# Altium footprint library RAMBo.PcbLib: 56 footprints (part 4 of 4)
Each footprint in its own frame and in the unit in brackets; x right, y up, seen from the top. Pads: shape width x height; smd on the part's side, far side on the other; paste and mask are expansions set on the pad; w line width, h text height; cw(c..) or ccw(c..) is an arc to the next point about the centre after c.
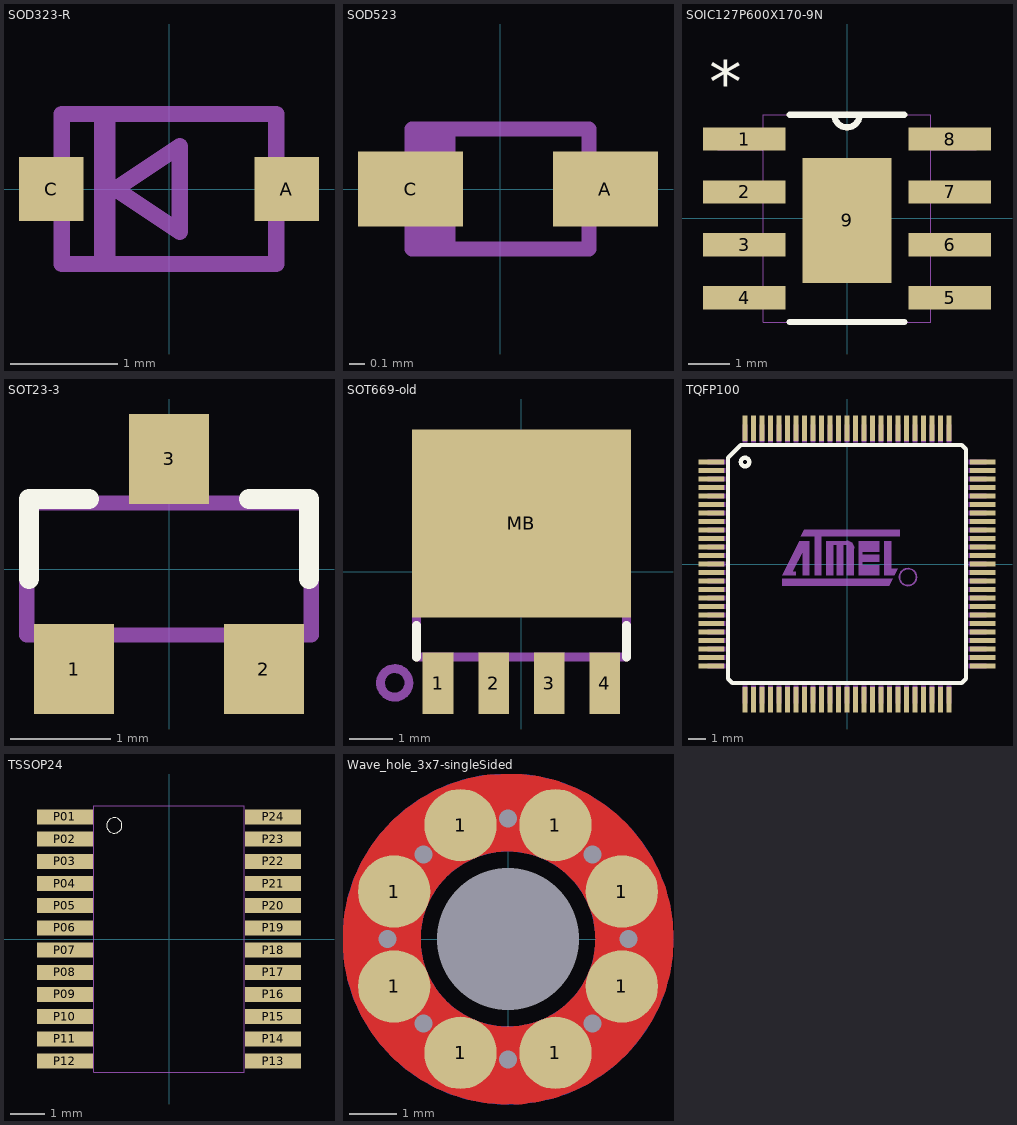
[diagram p3: the footprints below, top view; thin cyan lines are the x and y axes]

## SOD323-R [mil] "SOD323-R"
pads (2):
  rect 23.62x23.62 smd: A(43.31,0) C(-43.31,0)
Mechanical 16:
  rectangle: -27.56,-27.56 -19.69,27.56
  lines w6: -39.37,-27.56 -39.37,27.56 39.37,27.56 39.37,-27.56 -39.37,-27.56 ; -19.69,0 3.94,-15.75 3.94,15.75 -19.69,0

## SOD523 [mil] "SOD523"
pads (2):
  rect 27.56x19.69 smd: A(27.56,0) C(-23.62,0)
Mechanical 16:
  rectangle: -23.23,-15.75 -11.81,15.75
  rectangle: 21.26,-6.69 29.53,6.69
  rectangle: -29.53,-6.69 -21.26,6.69
  lines w4: -23.23,-15.75 -23.23,15.75 23.23,15.75 23.23,-15.75 -23.23,-15.75

## SOIC127P600X170-9N [mil] "SOIC127P600X170-9N"
pads (9):
  rect 78x22 smd: 1(-97,75) 2(-97,25) 3(-97,-25) 4(-97,-75) 5(97,-75) 6(97,-25) 7(97,25) 8(97,75)
  rect 84x118 smd: 9(0,-2)
Top Overlay:
  lines w6: -54,-98 54,-98 ; -54,98 54,98 ; -12,98 ccw(c0,98) 12,98
  text "*" at -130,92 h77.5
Top Paste:
  region: 40,-13 34,-13 31,-10 17,-10 14,-7 14,7 17,10 31,10 35,14 40,14
  region: -40,13 -34,13 -31,10 -17,10 -14,7 -14,-7 -17,-10 -31,-10 -35,-14 -40,-14
  region: 40,-58 -40,-58 -40,-43 -25,-43 -22.07,-42.71 -16.67,-40.47 -12.53,-36.33 -10.29,-30.93 -10,-28 -10,-26.01 -8.48,-22.34 -5.66,-19.52 -1.99,-18 1.99,-18 5.66,-19.52 8.48,-22.34 10,-26.01 10,-28 10.29,-30.93 12.53,-36.33 16.67,-40.47 22.07,-42.71 25,-43 40,-43
  region: -40,55 40,55 40,40 25,40 22.07,39.71 16.67,37.47 12.53,33.33 10.29,27.93 10,25 10,23.01 8.48,19.34 5.66,16.52 1.99,15 -1.99,15 -5.66,16.52 -8.48,19.34 -10,23.01 -10,25 -10.29,27.93 -12.53,33.33 -16.67,37.47 -22.07,39.71 -25,40 -40,40
Top Solder:
  region: -43,-25 -40,-25 -39.71,-27.93 -37.47,-33.33 -33.33,-37.47 -27.93,-39.71 -25,-40 -22.07,-39.71 -16.67,-37.47 -12.53,-33.33 -10.29,-27.93 -10,-25 10,-25 10.29,-27.93 12.53,-33.33 16.67,-37.47 22.07,-39.71 25,-40 27.93,-39.71 33.33,-37.47 37.47,-33.33 39.71,-27.93 40,-25 42,-25 42,-61.5 -43,-61.5
  region: -43,0 -15,0 -14.71,-2.93 -12.47,-8.33 -8.33,-12.47 -2.93,-14.71 0,-15 2.93,-14.71 8.33,-12.47 12.47,-8.33 14.71,-2.93 15,0 42,0 42,-25 40,-25 39.71,-22.07 37.47,-16.67 33.33,-12.53 27.93,-10.29 25,-10 22.07,-10.29 16.67,-12.53 12.53,-16.67 10.29,-22.07 10,-25 -10,-25 -10.29,-22.07 -12.53,-16.67 -16.67,-12.53 -22.07,-10.29 -25,-10 -27.93,-10.29 -33.33,-12.53 -37.47,-16.67 -39.71,-22.07 -40,-25 -43,-25
  region: -43,25 -40,25 -39.71,22.07 -37.47,16.67 -33.33,12.53 -27.93,10.29 -25,10 -22.07,10.29 -16.67,12.53 -12.53,16.67 -10.29,22.07 -10,25 10,25 10.29,22.07 12.53,16.67 16.67,12.53 22.07,10.29 25,10 27.93,10.29 33.33,12.53 37.47,16.67 39.71,22.07 40,25 42,25 42,0 15,0 14.71,2.93 12.47,8.33 8.33,12.47 2.93,14.71 0,15 -2.93,14.71 -8.33,12.47 -12.47,8.33 -14.71,2.93 -15,0 -43,0
  region: -43,58 42,58 42,25 40,25 39.71,27.93 37.47,33.33 33.33,37.47 27.93,39.71 25,40 22.07,39.71 16.67,37.47 12.53,33.33 10.29,27.93 10,25 -10,25 -10.29,27.93 -12.53,33.33 -16.67,37.47 -22.07,39.71 -25,40 -27.93,39.71 -33.33,37.47 -37.47,33.33 -39.71,27.93 -40,25 -43,25
Mechanical 16:
  lines w0: -12,98 ccw(c0,98) 12,98 ; -122,-85 -79,-85 -79,-65 -122,-65 -122,-85 ; -122,-35 -79,-35 -79,-15 -122,-15 -122,-35 ; -122,15 -79,15 -79,35 -122,35 -122,15 ; -122,65 -79,65 -79,85 -122,85 -122,65 ; -79,-98 -79,98 79,98 79,-98 -79,-98 ; 79,-85 122,-85 122,-65 79,-65 79,-85 ; 79,-35 122,-35 122,-15 79,-15 79,-35 ; 79,15 122,15 122,35 79,35 79,15 ; 79,65 122,65 122,85 79,85 79,65
  text "*" at -130,92 h77.5

## SOT23-3 [mil] "SOT23-3"
pads (3):
  rect 31.5x35.43 smd: 1(-37.4,-39.37) 2(37.4,-39.37) 3(0,43.31)
Top Overlay:
  lines w8: -55.12,-3.94 -55.12,27.56 -31.5,27.56 ; 31.5,27.56 55.12,27.56 55.12,-3.94
Mechanical 16:
  lines w6: -56,-26 -56,26 56,26 56,-26 -56,-26

## SOT669-old [mm] "SOT669"
pads (5):
  rect 0.7x1.4 smd: 1(-1.905,-2.55) 2(-0.635,-2.55) 3(0.635,-2.55) 4(1.905,-2.55)
  rect 5x4.3 smd: MB(0,1.1)
Top Overlay:
  lines w0.203: -2.4,-1.95 -2.4,-1.225 ; 2.4,-1.95 2.4,-1.225
Top Paste:
  region: -2.44,3.24 -2.16,3.24 -2.16,1.92 -2.44,1.92
  region: 2.19,3.24 2.44,3.24 2.44,1.92 2.19,1.92
  region: -1.73,3.23 -1.16,3.23 -1.16,2.61 -1.25,2.52 -1.63,2.52 -1.73,2.62
  region: -0.77,3.23 -0.2,3.23 -0.2,2.61 -0.29,2.52 -0.67,2.52 -0.77,2.62
  region: 0.18,3.24 0.75,3.24 0.75,2.62 0.66,2.53 0.28,2.53 0.18,2.63
  region: 1.13,3.24 1.7,3.24 1.7,2.62 1.61,2.53 1.23,2.53 1.13,2.63
  region: -1.52,2.09 -1.22,2.09 -1.15,2.02 -1.15,1.68 -1.27,1.56 -1.52,1.56
  region: 1.52,2.09 1.22,2.09 1.15,2.02 1.15,1.69 1.27,1.57 1.52,1.57
  region: -1.51,-0.95 -1.51,-0.73 -1.26,-0.73 -1.15,-0.84 -1.15,-0.96 -1.51,-0.96
  region: 1.52,-0.95 1.52,-0.73 1.28,-0.73 1.17,-0.84 1.17,-0.96 1.52,-0.96
  region: 1.52,-0.37 1.52,0.23 1.28,0.23 1.14,0.09 1.14,-0.22 1.29,-0.37
  region: 1.51,0.58 1.51,1.18 1.27,1.18 1.13,1.04 1.13,0.73 1.28,0.58
  region: -1.52,0.24 -1.52,-0.36 -1.28,-0.36 -1.14,-0.22 -1.14,0.09 -1.29,0.24
  region: -1.52,1.2 -1.52,0.6 -1.28,0.6 -1.14,0.74 -1.14,1.05 -1.29,1.2
  region: -0.74,-0.96 -0.74,-0.83 -0.65,-0.74 -0.29,-0.74 -0.2,-0.83 -0.2,-0.96
  region: 0.22,-0.96 0.22,-0.83 0.31,-0.74 0.67,-0.74 0.76,-0.83 0.76,-0.96
  region: -0.63,2.17 -0.34,2.17 -0.21,2.04 -0.21,1.66 -0.3,1.57 -0.65,1.57 -0.75,1.67 -0.75,2.05
  region: 0.33,2.16 0.62,2.16 0.75,2.03 0.75,1.65 0.66,1.56 0.31,1.56 0.21,1.66 0.21,2.04
  region: 0.34,1.19 0.63,1.19 0.76,1.06 0.76,0.68 0.67,0.59 0.32,0.59 0.22,0.69 0.22,1.07
  region: -0.62,1.22 -0.33,1.22 -0.2,1.09 -0.2,0.71 -0.29,0.62 -0.64,0.62 -0.74,0.72 -0.74,1.1
  region: 0.33,0.25 0.62,0.25 0.75,0.12 0.75,-0.26 0.66,-0.35 0.31,-0.35 0.21,-0.25 0.21,0.13
  region: -0.62,0.26 -0.33,0.26 -0.2,0.13 -0.2,-0.25 -0.29,-0.34 -0.64,-0.34 -0.74,-0.24 -0.74,0.14
Top Solder:
  drawing of 5 lines, arcs and shapes, not listed
Mechanical 16:
  circle w0.203: c-2.895,-2.54 r0.325
  rectangle: -2.155,-3.1 -1.655,-2.05
  rectangle: -2.205,-2.8 -1.605,-2.175
  rectangle: -0.885,-3.1 -0.385,-2.05
  rectangle: -0.935,-2.8 -0.335,-2.175
  rectangle: 0.385,-3.1 0.885,-2.05
  rectangle: 0.335,-2.8 0.935,-2.175
  rectangle: 1.655,-3.1 2.155,-2.05
  rectangle: 1.605,-2.8 2.205,-2.175
  region: -2.4,2.15 -2.4,2.8 -2.4,2.84 -2.37,2.913 -2.313,2.97 -2.24,3 -2.2,3 2.2,3 2.24,3 2.313,2.97 2.37,2.913 2.4,2.84 2.4,2.8 2.4,2.15 1.2,2.15 1.2,2.3 -1.2,2.3 -1.2,2.15
  lines w0.203: -2.4,-1.95 2.4,-1.95 2.4,1.95 -2.4,1.95 -2.4,-1.95

## TQFP100 [mm] "TQFP100"
pads (100):
  rect 1.5x0.3 smd: 1(-8,6) 2(-8,5.5) 3(-8,5) 4(-8,4.5) 5(-8,4) 6(-8,3.5) 7(-8,3) 8(-8,2.5) 9(-8,2) 10(-8,1.5) 11(-8,1) 12(-8,0.5) 13(-8,0) 14(-8,-0.5) 15(-8,-1) 16(-8,-1.5) 17(-8,-2) 18(-8,-2.5) 19(-8,-3) 20(-8,-3.5) 21(-8,-4) 22(-8,-4.5) 23(-8,-5) 24(-8,-5.5) 25(-8,-6) 51(8,-6) 52(8,-5.5) 53(8,-5) 54(8,-4.5) 55(8,-4) 56(8,-3.5) 57(8,-3) 58(8,-2.5) 59(8,-2) 60(8,-1.5) 61(8,-1) 62(8,-0.5) 63(8,0) 64(8,0.5) 65(8,1) 66(8,1.5) 67(8,2) 68(8,2.5) 69(8,3) 70(8,3.5) 71(8,4) 72(8,4.5) 73(8,5) 74(8,5.5) 75(8,6)
  rect 0.3x1.5 smd: 26(-6,-8) 27(-5.5,-8) 28(-5,-8) 29(-4.5,-8) 30(-4,-8) 31(-3.5,-8) 32(-3,-8) 33(-2.5,-8) 34(-2,-8) 35(-1.5,-8) 36(-1,-8) 37(-0.5,-8) 38(0,-8) 39(0.5,-8) 40(1,-8) 41(1.5,-8) 42(2,-8) 43(2.5,-8) 44(3,-8) 45(3.5,-8) 46(4,-8) 47(4.5,-8) 48(5,-8) 49(5.5,-8) 50(6,-8) 76(6,8) 77(5.5,8) 78(5,8) 79(4.5,8) 80(4,8) 81(3.5,8) 82(3,8) 83(2.5,8) 84(2,8) 85(1.5,8) 86(1,8) 87(0.5,8) 88(0,8) 89(-0.5,8) 90(-1,8) 91(-1.5,8) 92(-2,8) 93(-2.5,8) 94(-3,8) 95(-3.5,8) 96(-4,8) 97(-4.5,8) 98(-5,8) 99(-5.5,8) 100(-6,8)
Top Overlay:
  circle w0.254: c-6,6 r0.25
  lines w0.254: -7,-6.75 -7,6.25 -6.25,7 6.75,7 7,6.75 7,-6.75 6.75,-7 -6.75,-7 -7,-6.75
Top Solder:
  region: -6.225,8.826 -6.225,7.173 6.225,7.173 6.225,8.826
  region: -7.173,6.225 -8.826,6.225 -8.826,-6.225 -7.173,-6.225
  region: 8.826,6.225 7.173,6.225 7.173,-6.225 8.826,-6.225
  region: -6.225,-7.173 -6.225,-8.826 6.225,-8.826 6.225,-7.173
Mechanical 16:
  drawing of 108 lines, arcs and shapes, not listed
  text "R" at 3.39,-1.07 h0.94
  text "TQFP 100" at -2.81,-2.48 h1.26

## TSSOP24 [mm] "TSSOP24"
pads (24):
  rect 1.635x0.44 smd: P01(-3.05,3.575) P02(-3.05,2.925) P03(-3.05,2.275) P04(-3.05,1.625) P05(-3.05,0.975) P06(-3.05,0.325) P07(-3.05,-0.325) P08(-3.05,-0.975) P09(-3.05,-1.625) P10(-3.05,-2.275) P11(-3.05,-2.925) P12(-3.05,-3.575) P13(3.05,-3.575) P14(3.05,-2.925) P15(3.05,-2.275) P16(3.05,-1.625) P17(3.05,-0.975) P18(3.05,-0.325) P19(3.05,0.325) P20(3.05,0.975) P21(3.05,1.625) P22(3.05,2.275) P23(3.05,2.925) P24(3.05,3.575)
Top Overlay:
  circle w0: c-1.6,3.325 r0.224
Top Solder:
  region: 2.15,3.875 3.95,3.875 3.95,-3.875 2.15,-3.875
  region: -3.95,3.875 -2.15,3.875 -2.15,-3.875 -3.95,-3.875
Mechanical 16:
  lines w0: -2.2,-3.9 -2.2,3.9 2.2,3.9 2.2,-3.9 -2.2,-3.9

## Wave_hole_3x7-singleSided [mil]
height 74.8
pads (17):
  round 0 hole 118.11 unplated paste+0 mask-112: 0(0,0)
  round 0 hole 15 paste-20 mask-20: 1(-100,0) 1(-70,-70) 1(-70,70) 1(0,-100) 1(0,100) 1(70,-70) 1(70,70) 1(100,0)
  round 60 smd paste-5 mask+0: 1(-94.49,-39.37) 1(-94.49,39.37) 1(-39.37,-94.49) 1(-39.37,94.49) 1(39.37,-94.49) 1(39.37,94.49) 1(94.49,-39.37) 1(94.49,39.37)
Top Layer:
  circle w64.96: c0,0 r105
Bottom Layer:
  lines w64.96: -74.25,74.25 cw(c0,0) 105,0 cw(c0,0) 74.25,-74.25 cw(c0,0) -74.25,74.25
3D body: height 0, standoff 0, extent -104.98,-104.98 104.98,104.98